# Altium schematic symbol library Dogfish3D.SchLib: 4 symbols
Pins are listed as number, name and electrical type; pins without a type are passive.

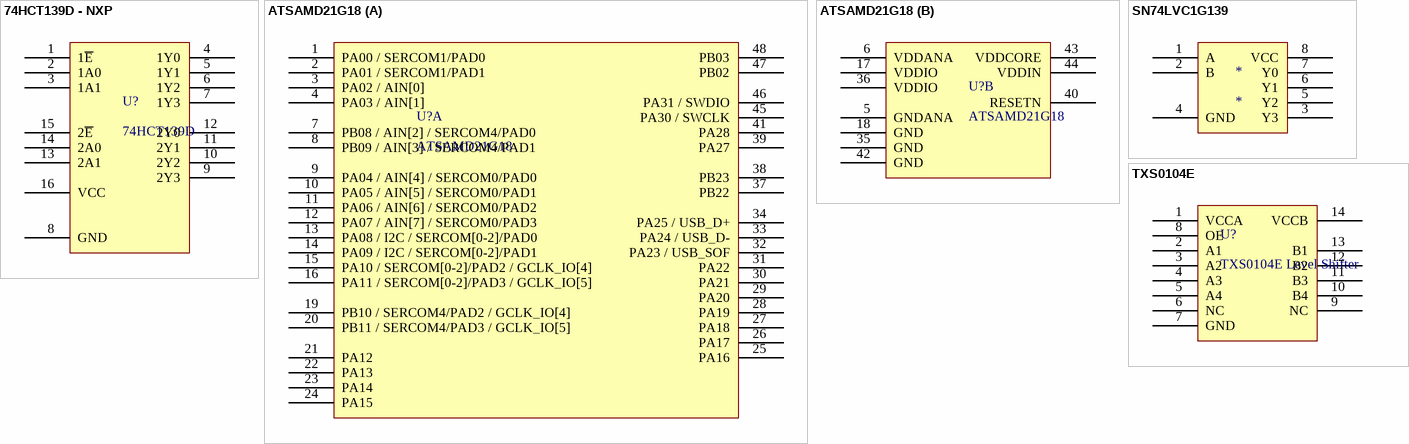
[diagram p0: symbols 74HCT139D - NXP to TXS0104E]

## 74HCT139D - NXP
designator U?, comment 74HCT139D
74HCT139D 2-4 dual Decoder from NXP
footprint SOIC127P600X175-16N (SOIC, 16-Leads, Body 9.90x3.90mm, Pitch 1.27mm, IPC Medium Density)
pins: 1 1~{E}, 2 1A0, 3 1A1, 4 1Y0, 5 1Y1, 6 1Y2, 7 1Y3, 8 GND, 9 2Y3, 10 2Y2, 11 2Y1, 12 2Y0, 13 2A1, 14 2A0, 15 2~{E}, 16 VCC

## ATSAMD21G18
designator U?
footprint TSQFP50P900X900X120-48N (TSQFP, 48-Leads, Body 7.00x7.00mm, Pitch 0.50mm, IPC Medium Density)
part A pins: 1 PA00 / SERCOM1/PAD0, 2 PA01 / SERCOM1/PAD1, 3 PA02 / AIN[0], 4 PA03 / AIN[1], 7 PB08 / AIN[2] / SERCOM4/PAD0, 8 PB09 / AIN[3] / SERCOM4/PAD1, 9 PA04 / AIN[4] / SERCOM0/PAD0, 10 PA05 / AIN[5] / SERCOM0/PAD1, 11 PA06 / AIN[6] / SERCOM0/PAD2, 12 PA07 / AIN[7] / SERCOM0/PAD3, 13 PA08 / I2C / SERCOM[0-2]/PAD0, 14 PA09 / I2C / SERCOM[0-2]/PAD1, 15 PA10 / SERCOM[0-2]/PAD2 / GCLK_IO[4], 16 PA11 / SERCOM[0-2]/PAD3 / GCLK_IO[5], 19 PB10 / SERCOM4/PAD2 / GCLK_IO[4], 20 PB11 / SERCOM4/PAD3 / GCLK_IO[5], 21 PA12, 22 PA13, 23 PA14, 24 PA15, 25 PA16, 26 PA17, 27 PA18, 28 PA19, 29 PA20, 30 PA21, 31 PA22, 32 PA23 / USB_SOF, 33 PA24 / USB_D-, 34 PA25 / USB_D+, 37 PB22, 38 PB23, 39 PA27, 41 PA28, 45 PA30 / SWCLK, 46 PA31 / SWDIO, 47 PB02, 48 PB03
part B pins: 5 GNDANA, 6 VDDANA, 17 VDDIO, 18 GND, 35 GND, 36 VDDIO, 40 RESETN, 42 GND, 43 VDDCORE, 44 VDDIN

## SN74LVC1G139
designator *
footprint Ti DCU (R-PDSO-G8) SOIC - SN74VC1G139 (TSSOP, 8-Leads, Body 2.00x2.30mm, Pitch 0.50mm, IPC Medium Density)
pins: 1 A, 2 B, 3 Y3, 4 GND, 5 Y2, 6 Y1, 7 Y0, 8 VCC

## TXS0104E
designator U?, comment TXS0104E Level Shifter
TXS0104E - Bidriectional Opendrain/pushpull level shift
footprint RGY  (S-PVQFN-N14) (QFN, 16-Leads, Body 3.50x3.50mm, Pitch 0.50mm, Thermal Pad 2.00x2.00mm, IPC Medium Density)
pins: 1 VCCA, 2 A1, 3 A2, 4 A3, 5 A4, 6 NC, 7 GND, 8 OE, 9 NC, 10 B4, 11 B3, 12 B2, 13 B1, 14 VCCB